# EAGLE library part AD441BRZ (library EIT_Recorder)
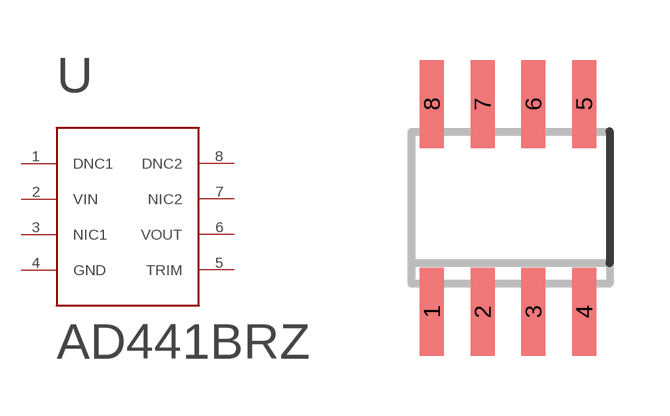
[diagram p1: symbol with the pads of SOIC8N_CUSTOM; footprint SOIC8N_CUSTOM]

Designator prefix U

## AD441BRZ  [SOIC8N_CUSTOM]
1  DNC1  nc
2  VIN  in
3  NIC1  nc
4  GND  pas
5  TRIM  in
6  VOUT  out
7  NIC2  nc
8  DNC2  nc

## Footprint SOIC8N_CUSTOM (pad centres in mm)
14-Lead Narrow-Body SOIC (SO-14) Source: http://www.analog.com/static/imported-files/data_sheets/SSM2166.pdf
smd 0.6 x 2.2: 1 -3.81,-2.6; 2 -2.54,-2.6; 3 -1.27,-2.6; 4 0,-2.6; 5 0,2.6; 6 -1.27,2.6; 7 -2.54,2.6; 8 -3.81,2.6